# EAGLE library part IC_TTL_74_04,14 (library mylib_20130829)
IC_TTL_74_04,14 : HEX INVERTER Packages : _DIP : 2.54 x 14 x 300mil _FLAT : 1.27 x 14 x (Width) (Variant name3) : (Pitch) x (Pin) x (Width)
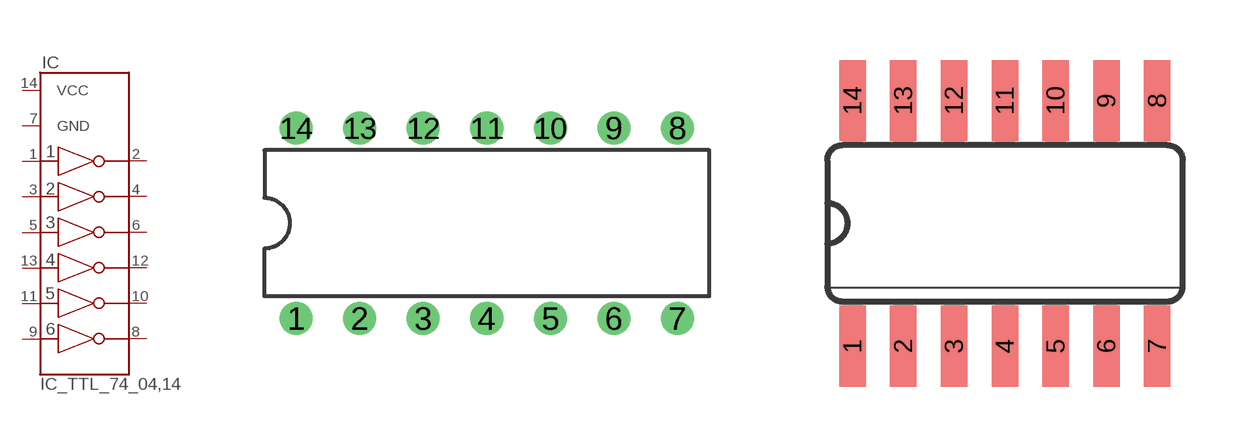
[diagram p56: symbol with the pads of IC_SOCKET_DIL_14; footprints IC_SOCKET_DIL_14, IC_14_1.27_150MIL]

Designator prefix IC

## IC_TTL_74_04,14_DIP  [IC_SOCKET_DIL_14]
1  1A  in
2  1Y  out
3  2A  in
4  2Y  out
5  3A  in
6  3Y  out
7  GND  pwr
8  6Y  out
9  6A  in
10  5Y  out
11  5A  in
12  4Y  out
13  4A  in
14  VCC  pwr

## IC_TTL_74_04,14_FLAT  [IC_14_1.27_150MIL]
Pads as for IC_SOCKET_DIL_14

## Footprint IC_SOCKET_DIL_14 (pad centres in mm)
Dual In Line Package
drill 0.813: 1 -7.62,-3.81; 2 -5.08,-3.81; 3 -2.54,-3.81; 4 0,-3.81; 5 2.54,-3.81; 6 5.08,-3.81; 7 7.62,-3.81; 8 7.62,3.81; 9 5.08,3.81; 10 2.54,3.81; 11 0,3.81; 12 -2.54,3.81; 13 -5.08,3.81; 14 -7.62,3.81

## Footprint IC_14_1.27_150MIL (pad centres in mm)
Small Outline Package
smd 0.66 x 2.032: 1 -3.81,-3.073; 2 -2.54,-3.073; 3 -1.27,-3.073; 4 0,-3.073; 5 1.27,-3.073; 6 2.54,-3.073; 7 3.81,-3.073; 8 3.81,3.073; 9 2.54,3.073; 10 1.27,3.073; 11 0,3.073; 12 -1.27,3.073; 13 -2.54,3.073; 14 -3.81,3.073